# Altium integrated library TJA1042T_118.IntLib: 1 symbol
Pins are listed as number, name and electrical type; pins without a type are passive.

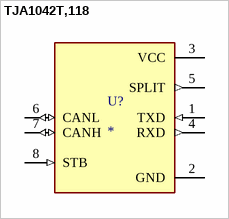
[diagram p0: symbol TJA1042T,118]

## TJA1042T,118
designator U?
MP: TJA1042T,118; Value: *; Availability: Unavailable; Price: None; Package: None
footprint SOIC127P600X175-8N
pins: 1 TXD (in), 2 GND (power), 3 VCC (power), 4 RXD (out), 5 SPLIT (out), 6 CANL (io), 7 CANH (io), 8 STB (in)